# Altium integrated library DataConverters_Library.IntLib: 8 symbols
Pins are listed as number, name and electrical type; pins without a type are passive.

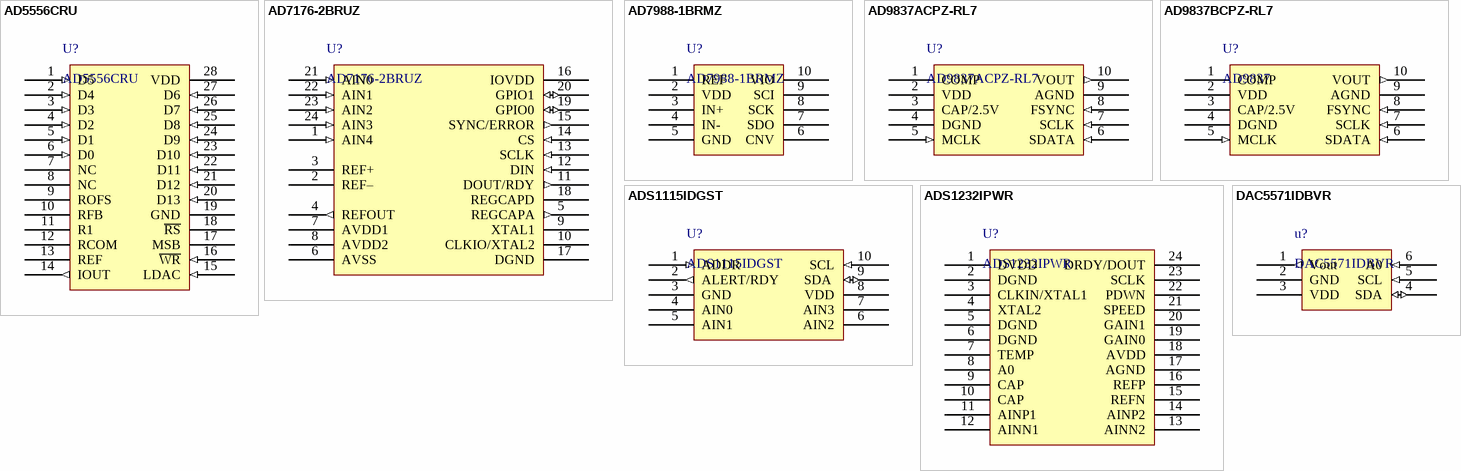
[diagram p0: symbols AD5556CRU to DAC5571IDBVR]

## AD5556CRU
designator U?
數位類比轉換器 - DAC 14 Bit Parallel Crnt Output IC; 單價: 617; 製造商: Analog Devices; 代理商: digikey; 參考網站: http://www.digikey.tw/product-detail/zh/analog-devices-inc/AD5556CRU/AD5556CRU-ND/644105; 資料手冊: http://www.analog.com/media/en/technical-documentation/data-sheets/AD5546_5556.pdf
footprint TSSOP 28P (4.4mm 寬)
pins: 1 D5 (in), 2 D4 (in), 3 D3 (in), 4 D2 (in), 5 D1 (in), 6 D0 (in), 7 NC, 8 NC, 9 ROFS, 10 RFB, 11 R1, 12 RCOM, 13 REF, 14 IOUT (out), 15 LDAC (in), 16 ~{WR} (in), 17 MSB, 18 ~{RS}, 19 GND (power), 20 D13 (in), 21 D12 (in), 22 D11 (in), 23 D10 (in), 24 D9 (in), 25 D8 (in), 26 D7 (in), 27 D6 (in), 28 VDD (power)

## AD7176-2BRUZ
designator U?
類比數位轉換器 - ADC 24-Bit 250ksps 20uS Settling,  TSSOP-24; 製造商: Analog Devices; 代理商: mouser; 單價: 657.92; 參考網站: http://www.mouser.tw/ProductDetail/Analog-Devices/AD7176-2BRUZ/?qs=sGAEpiMZZMvTvDTV69d2QgYdPJm2vkaBFZ2gghNz8J0%3d; 資料手冊: http://www.mouser.com/ds/2/609/AD7176-2-877268.pdf
footprint TSSOP 24P
pins: 1 AIN4 (in), 2 REF– (power), 3 REF+ (power), 4 REFOUT (out), 5 REGCAPA (out), 6 AVSS (power), 7 AVDD1 (power), 8 AVDD2 (power), 9 XTAL1, 10 CLKIO/XTAL2, 11 DOUT/RDY (out), 12 DIN (in), 13 SCLK (in), 14 CS (in), 15 SYNC/ERROR (out), 16 IOVDD (power), 17 DGND (power), 18 REGCAPD, 19 GPIO0 (io), 20 GPIO1 (io), 21 AIN0 (in), 22 AIN1 (in), 23 AIN2 (in), 24 AIN3 (in)

## AD7988-1BRMZ
designator U?
類比數位轉換器 - ADC 16-Bit 100ksps Ultra Lo Pwr SAR,  MSOP-10; 單價: 570.15; 製造商: Analog Devices; 代理商: mouser; 參考網站: http://www.mouser.tw/ProductDetail/Analog-Devices/AD7988-1BRMZ/?qs=sGAEpiMZZMvTvDTV69d2QgYdPJm2vkaBdk2KSsC4fbo%3d; 資料手冊: http://www.mouser.com/ds/2/609/AD7988-1_7988-5-877574.pdf
footprint MSOP 10P (3mm X 3mm (0.5mm))
pins: 1 REF, 2 VDD (power), 3 IN+, 4 IN-, 5 GND (power), 6 CNV, 7 SDO, 8 SCK, 9 SCI, 10 VIO (power)

## AD9837ACPZ-RL7
designator U?
數據採集ADC/DAC - 專用 8.5mW 2.3-5.5V Prog Waveform Generator,  LFCSP-10; 製造商: Analog Devices; 單價: 148.07; 代理商: mouser; 資料手冊: http://www.analog.com/media/en/technical-documentation/data-sheets/AD9837.PDF; 參考網站: http://www.mouser.tw/ProductDetail/Analog-Devices/AD9837ACPZ-RL7/?qs=sGAEpiMZZMt%2foy9k%2f5obbU0YfL1ODTenY8NFCOe3x7w%3d
footprint 10-lead LFCSP WD
pins: 1 COMP, 2 VDD (power), 3 CAP/2.5V (power), 4 DGND (power), 5 MCLK (in), 6 SDATA (in), 7 SCLK (in), 8 FSYNC (in), 9 AGND (power), 10 VOUT (out)

## AD9837BCPZ-RL7
designator U?, comment AD9837
數據採集ADC/DAC - 專用 8.5mW 2.3-5.5V Prog Waveform Generator, LFCSP-10; 製造商: Analog Devices; 單價: 159.84; 資料手冊: http://www.analog.com/media/en/technical-documentation/data-sheets/AD9837.PDF; 參考: http://www.mouser.tw/ProductDetail/Analog-Devices/AD9837BCPZ-RL7/?qs=sGAEpiMZZMv9Q1JI0Mo%2ftXhnR5A%252bMP8g
footprint 10-lead LFCSP WD
pins: 1 COMP, 2 VDD (power), 3 CAP/2.5V (power), 4 DGND (power), 5 MCLK (in), 6 SDATA (in), 7 SCLK (in), 8 FSYNC (in), 9 AGND (power), 10 VOUT (out)

## ADS1115IDGST
designator U?
類比數位轉換器 - ADC 16B ADC w/ Int MUX PGA Comp Osc & Ref; 單價: 225.13; 製造商: Texas Instruments; 代理商: mouser; 參考網站: http://www.mouser.tw/ProductDetail/Texas-Instruments/ADS1115IDGST/?qs=sGAEpiMZZMvTvDTV69d2QliEEY3K5%252b4THfLUMCQqMyM%3d; 資料手冊: http://www.mouser.com/ds/2/405/ads1115-438946.pdf
footprint VSSOP-10
pins: 1 ADDR (in), 2 ALERT/RDY (out), 3 GND (power), 4 AIN0, 5 AIN1, 6 AIN2, 7 AIN3, 8 VDD (power), 9 SDA  (io), 10 SCL (in)

## ADS1232IPWR
designator U?
類比數位轉換器 - ADC 24-Bit Ultra Low-Noise, TSSOP-24; 製造商: Texas Instruments; 單價: 297.92; 代理商: mouser; 參考網站: http://www.mouser.tw/ProductDetail/Texas-Instruments/ADS1232IPWR/?qs=sGAEpiMZZMuo%252bmZx5g6tFNDfOGCwYriD; 資料手冊: http://www.ti.com.cn/general/cn/docs/lit/getliterature.tsp?genericPartNumber=ads1232&fileType=pdf
footprint TSSOP 24P
pins: 1 DVDD, 2 DGND, 3 CLKIN/XTAL1, 4 XTAL2, 5 DGND, 6 DGND, 7 TEMP, 8 A0, 9 CAP, 10 CAP, 11 AINP1, 12 AINN1, 13 AINN2, 14 AINP2, 15 REFN, 16 REFP, 17 AGND, 18 AVDD, 19 GAIN0, 20 GAIN1, 21 SPEED, 22 PDWN, 23 SCLK, 24 DRDY/DOUT

## DAC5571IDBVR
designator u?
數位類比轉換器 - DAC Low-power 8-Bit w/hi-speed I2C Input; 製造商: Texas Instruments; 單價: 84.92; 代理商: mouser; 參考網站: http://www.mouser.tw/ProductDetail/Texas-Instruments/DAC5571IDBVR/?qs=sGAEpiMZZMuo%252bmZx5g6tFBkovkIjyNFf; 資料手冊: http://www.mouser.com/ds/2/405/dac5571-555799.pdf
footprint SOT23-6
pins: 1 Vout (out), 2 GND (power), 3 VDD (power), 4 SDA (io), 5 SCL (in), 6 A0 (in)